# Altium schematic symbol library HV_MOSFET(IPB200N253N3).SchLib: 2 symbols
Pins are listed as number, name and electrical type; pins without a type are passive.

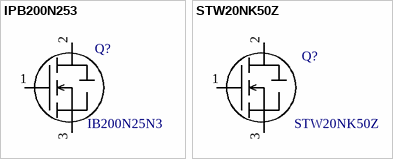
[diagram p0: symbols IPB200N253 to STW20NK50Z]

## IPB200N253
designator Q?, comment IB200N25N3
ComponentLink1Description: Mouser Part; ComponentLink1URL: https://www.mouser.com/ProductDetail/Infineon-Technologies/IPB200N25N3-G?qs=sGAEpiMZZMshyDBzk1%2fWi5eGkr%252bPRUK3FK%2fjPTagUYc%3d
footprint Model Name (Footprint not found)
pins: 1 Gate, 2 D, 3 Source

## STW20NK50Z
designator Q?
pins: 1 Gate, 2 D, 3 Source